# Altium footprint library PcbLib1.PcbLib: 3 footprints
Each footprint in its own frame and in the unit in brackets; x right, y up, seen from the top. Pads: shape width x height; smd on the part's side, far side on the other; paste and mask are expansions set on the pad; w line width, h text height; cw(c..) or ccw(c..) is an arc to the next point about the centre after c.
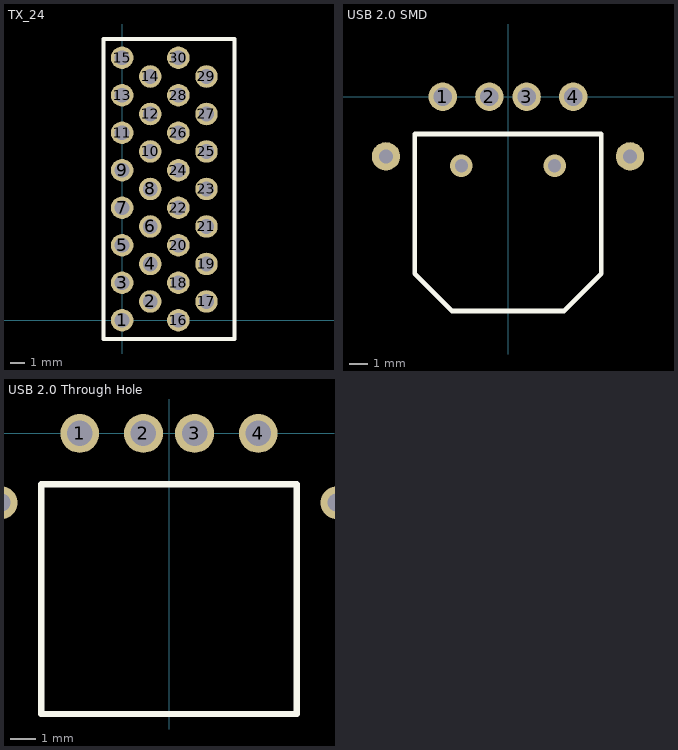
[diagram p0: the footprints below, top view; thin cyan lines are the x and y axes]

## TX_24 [mil]
pads (30):
  round 60 hole 39.37: 1(0,0) 2(75,50) 3(0,100) 4(75,150) 5(0,200) 6(75,250) 7(0,300) 8(75,350) 9(0,400) 10(75,450) 11(0,500) 12(75,550) 13(0,600) 14(75,650) 15(0,700) 16(150,0) 17(225,50) 18(150,100) 19(225,150) 20(150,200) 21(225,250) 22(150,300) 23(225,350) 24(150,400) 25(225,450) 26(150,500) 27(225,550) 28(150,600) 29(225,650) 30(150,700)
Top Overlay:
  lines w10: -50,-50 300,-50 300,750 -50,750 -50,-50

## USB 2.0 SMD [mil] "Type A"
pads (6):
  round 60 hole 39.37 square: 1(-137.8,0) 2(-39.37,0) 3(39.37,0) 4(137.8,0)
  round 60 hole 30 square: Sheild_1(-257.87,-125.98) Shield_2(257.87,-125.98)
via -98.43,-145.67 diameter 47.24 hole 28
via 98.43,-145.67 diameter 47.24 hole 28
Top Overlay:
  lines w10: -196.85,-374.02 -167.32,-403.54 -147.64,-423.23 -118.11,-452.76 78.74,-452.76 118.11,-452.76 196.85,-374.02 196.85,-78.74 -196.85,-78.74 -196.85,-374.02

## USB 2.0 Through Hole [mil] "Type A"
pads (4):
  round 60 hole 39.37: 1(-137.8,0) 2(-39.37,0) 3(39.37,0) 4(137.8,0)
via 258.66,-106.69 diameter 50 hole 28
via -258.66,-106.69 diameter 50 hole 28
Top Overlay:
  lines w10: -196.85,-433.07 196.85,-433.07 196.85,-78.74 -196.85,-78.74 -196.85,-433.07